# Altium footprint library Package_TO_SOT_THT.PcbLib: 236 footprints (part 10 of 15)
Each footprint in its own frame and in the unit in brackets; x right, y up, seen from the top. Pads: shape width x height; smd on the part's side, far side on the other; paste and mask are expansions set on the pad; w line width, h text height; cw(c..) or ccw(c..) is an arc to the next point about the centre after c.
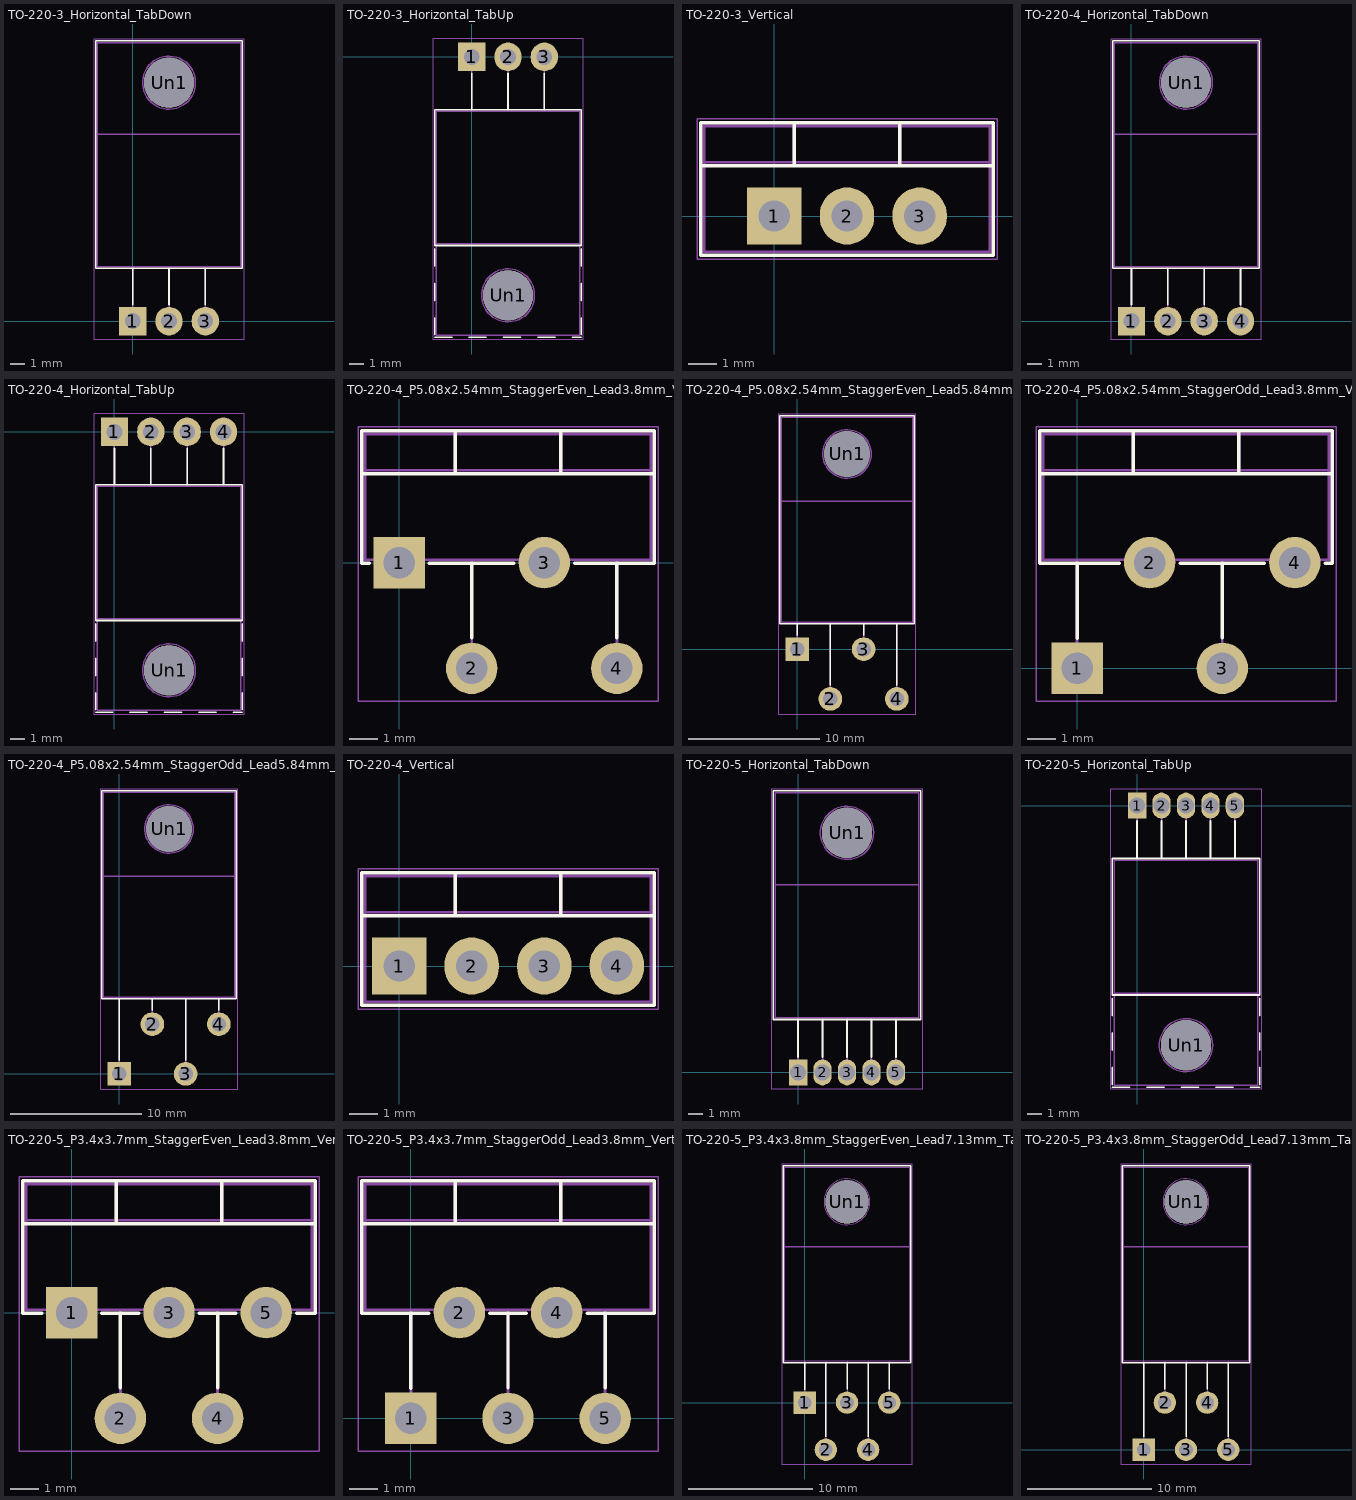
[diagram p9: the footprints below, top view; thin cyan lines are the x and y axes]

## TO-220-3_Horizontal_TabDown [mm]
pads (4):
  rect 1.905x2 hole 1.1: 1(0,0)
  rrect100% 1.905x2 hole 1.1: 2(2.54,0) 3(5.08,0)
  rrect100% 3.5x3.5 hole 3.5: Un1(2.54,16.66)
F.SilkS:
  lines w0.12: 0,1.15 0,3.69 ; 2.54,1.15 2.54,3.69 ; 5.08,1.15 5.08,3.69 ; -2.58,3.69 -2.58,19.58 7.66,19.58 7.66,3.69 -2.58,3.69
F.CrtYd:
  lines w0.05: -2.71,-1.25 -2.71,19.71 7.79,19.71 7.79,-1.25 -2.71,-1.25
F.Fab:
  circle w0.1: c2.54,16.66 r1.85
  lines w0.1: 0,0 0,3.81 ; 2.54,0 2.54,3.81 ; 5.08,0 5.08,3.81 ; -2.46,13.06 -2.46,19.46 7.54,19.46 7.54,13.06 ; -2.46,13.06 7.54,13.06 ; -2.46,13.06 7.54,13.06 ; -2.46,13.06 -2.46,3.81 7.54,3.81 7.54,13.06
  text "'.Designator'" at -1.507,19.74 h1

## TO-220-3_Horizontal_TabUp [mm]
pads (4):
  rect 1.905x2 hole 1.1: 1(0,0)
  rrect100% 1.905x2 hole 1.1: 2(2.54,0) 3(5.08,0)
  rrect100% 3.5x3.5 hole 3.5: Un1(2.54,-16.66)
F.SilkS:
  lines w0.12: -2.58,-19.58 -1.38,-19.58 ; -2.58,-19.42 -2.58,-18.22 ; -2.58,-17.02 -2.58,-15.82 ; -2.58,-14.62 -2.58,-13.42 ; -0.181,-19.58 1.02,-19.58 ; 0,-3.69 0,-1.15 ; 2.22,-19.58 3.42,-19.58 ; 2.54,-3.69 2.54,-1.15 ; 4.62,-19.58 5.82,-19.58 ; 5.08,-3.69 5.08,-1.15 ; 7.02,-19.58 7.66,-19.58 ; 7.66,-19.42 7.66,-18.22 ; 7.66,-17.02 7.66,-15.82 ; 7.66,-14.62 7.66,-13.42 ; -2.58,-13.18 -2.58,-3.69 7.66,-3.69 7.66,-13.18 -2.58,-13.18
F.CrtYd:
  lines w0.05: -2.71,-19.71 7.79,-19.71 7.79,1.25 -2.71,1.25 -2.71,-19.71
F.Fab:
  circle w0.1: c2.54,-16.66 r1.85
  lines w0.1: 0,-3.81 0,0 ; 2.54,-3.81 2.54,0 ; 5.08,-3.81 5.08,0 ; -2.46,-13.06 -2.46,-3.81 7.54,-3.81 7.54,-13.06 ; -2.46,-13.06 -2.46,-19.46 7.54,-19.46 7.54,-13.06 ; -2.46,-13.06 7.54,-13.06 ; -2.46,-13.06 7.54,-13.06
  text "'.Designator'" at -1.507,-21.42 h1

## TO-220-3_Vertical [mm]
pads (3):
  rect 1.905x2 hole 1.1: 1(0,0)
  rrect100% 1.905x2 hole 1.1: 2(2.54,0) 3(5.08,0)
F.SilkS:
  lines w0.12: -2.58,1.76 7.66,1.76 ; 0.69,1.76 0.69,3.27 ; 4.391,1.76 4.391,3.27 ; -2.58,-1.371 -2.58,3.27 7.66,3.27 7.66,-1.371 -2.58,-1.371
F.CrtYd:
  lines w0.05: -2.71,-1.51 -2.71,3.4 7.79,3.4 7.79,-1.51 -2.71,-1.51
F.Fab:
  lines w0.1: -2.46,1.88 7.54,1.88 ; 0.69,1.88 0.69,3.15 ; 4.39,1.88 4.39,3.15 ; -2.46,-1.25 7.54,-1.25 7.54,3.15 -2.46,3.15 -2.46,-1.25
  text "'.Designator'" at -1.507,3.43 h1

## TO-220-4_Horizontal_TabDown [mm]
pads (5):
  rect 1.905x2 hole 1.1: 1(0,0)
  rrect100% 1.905x2 hole 1.1: 2(2.54,0) 3(5.08,0) 4(7.62,0)
  rrect100% 3.5x3.5 hole 3.5: Un1(3.81,16.66)
F.SilkS:
  lines w0.12: 0,1.15 0,3.69 ; 2.54,1.15 2.54,3.69 ; 5.08,1.15 5.08,3.69 ; 7.62,1.15 7.62,3.69 ; -1.31,3.69 8.93,3.69 8.93,19.58 -1.31,19.58 -1.31,3.69
F.CrtYd:
  lines w0.05: -1.44,-1.25 9.06,-1.25 9.06,19.71 -1.44,19.71 -1.44,-1.25
F.Fab:
  circle w0.1: c3.81,16.66 r1.85
  lines w0.1: 0,0 0,3.81 ; 2.54,0 2.54,3.81 ; 5.08,0 5.08,3.81 ; 7.62,0 7.62,3.81 ; -1.19,13.06 8.81,13.06 ; -1.19,13.06 8.81,13.06 ; -1.19,13.06 -1.19,19.46 8.81,19.46 8.81,13.06 ; -1.19,13.06 -1.19,3.81 8.81,3.81 8.81,13.06
  text "'.Designator'" at -0.237,19.74 h1

## TO-220-4_Horizontal_TabUp [mm]
pads (5):
  rect 1.905x2 hole 1.1: 1(0,0)
  rrect100% 1.905x2 hole 1.1: 2(2.54,0) 3(5.08,0) 4(7.62,0)
  rrect100% 3.5x3.5 hole 3.5: Un1(3.81,-16.66)
F.SilkS:
  lines w0.12: -1.31,-19.58 -0.111,-19.58 ; -1.31,-19.42 -1.31,-18.22 ; -1.31,-17.02 -1.31,-15.82 ; -1.31,-14.62 -1.31,-13.42 ; 0,-3.69 0,-1.15 ; 1.09,-19.58 2.29,-19.58 ; 2.54,-3.69 2.54,-1.15 ; 3.49,-19.58 4.69,-19.58 ; 5.08,-3.69 5.08,-1.15 ; 5.89,-19.58 7.091,-19.58 ; 7.62,-3.69 7.62,-1.15 ; 8.29,-19.58 8.93,-19.58 ; 8.93,-19.42 8.93,-18.22 ; 8.93,-17.02 8.93,-15.82 ; 8.93,-14.62 8.93,-13.42 ; -1.31,-13.18 -1.31,-3.69 8.93,-3.69 8.93,-13.18 -1.31,-13.18
F.CrtYd:
  lines w0.05: -1.44,-19.71 -1.44,1.25 9.06,1.25 9.06,-19.71 -1.44,-19.71
F.Fab:
  circle w0.1: c3.81,-16.66 r1.85
  lines w0.1: 0,-3.81 0,0 ; 2.54,-3.81 2.54,0 ; 5.08,-3.81 5.08,0 ; 7.62,-3.81 7.62,0 ; -1.19,-13.06 -1.19,-3.81 8.81,-3.81 8.81,-13.06 ; -1.19,-13.06 8.81,-13.06 ; -1.19,-13.06 8.81,-13.06 ; -1.19,-13.06 -1.19,-19.46 8.81,-19.46 8.81,-13.06
  text "'.Designator'" at -0.237,-21.42 h1

## TO-220-4_P5.08x2.54mm_StaggerEven_Lead3.8mm_Vertical [mm]
pads (4):
  rect 1.8x1.8 hole 1.1: 1(0,0)
  rrect100% 1.8x1.8 hole 1.1: 2(2.54,-3.7) 3(5.08,0) 4(7.62,-3.7)
F.SilkS:
  lines w0.12: -1.31,3.111 8.93,3.111 ; -1.05,-0.021 -1.31,-0.021 -1.31,4.62 8.93,4.62 8.93,-0.021 6.145,-0.021 ; 1.05,-0.021 4.016,-0.021 ; 1.96,3.111 1.96,4.62 ; 2.54,-2.635 2.54,-0.021 ; 5.66,3.111 5.66,4.62 ; 7.62,-2.635 7.62,-0.021
F.CrtYd:
  lines w0.05: -1.44,-4.85 9.06,-4.85 9.06,4.75 -1.44,4.75 -1.44,-4.85
F.Fab:
  lines w0.1: -1.19,3.23 8.81,3.23 ; 0,0 0,0.1 ; 1.96,3.23 1.96,4.5 ; 2.54,-3.7 2.54,0.1 ; 5.08,0 5.08,0.1 ; 5.66,3.23 5.66,4.5 ; 7.62,-3.7 7.62,0.1 ; -1.19,0.1 -1.19,4.5 8.81,4.5 8.81,0.1 -1.19,0.1
  text "'.Designator'" at -0.237,4.78 h1

## TO-220-4_P5.08x2.54mm_StaggerEven_Lead5.84mm_TabDown [mm]
pads (5):
  rect 1.8x1.8 hole 1.1: 1(0,0)
  rrect100% 1.8x1.8 hole 1.1: 2(2.54,-3.8) 3(5.08,0) 4(7.62,-3.8)
  rrect100% 3.5x3.5 hole 3.5: Un1(3.81,14.9)
F.SilkS:
  lines w0.12: 0,1.05 0,1.93 ; 2.54,-2.735 2.54,1.93 ; 5.08,1.066 5.08,1.93 ; 7.62,-2.735 7.62,1.93 ; -1.31,1.93 8.93,1.93 8.93,17.82 -1.31,17.82 -1.31,1.93
F.CrtYd:
  lines w0.05: -1.44,-4.95 -1.44,17.95 9.06,17.95 9.06,-4.95 -1.44,-4.95
F.Fab:
  circle w0.1: c3.81,14.9 r1.85
  lines w0.1: 0,0 0,2.05 ; 2.54,-3.8 2.54,2.05 ; 5.08,0 5.08,2.05 ; 7.62,-3.8 7.62,2.05 ; -1.19,11.3 -1.19,17.7 8.81,17.7 8.81,11.3 ; -1.19,11.3 8.81,11.3 ; -1.19,11.3 -1.19,2.05 8.81,2.05 8.81,11.3 ; -1.19,11.3 8.81,11.3
  text "'.Designator'" at -0.237,17.98 h1

## TO-220-4_P5.08x2.54mm_StaggerOdd_Lead3.8mm_Vertical [mm]
pads (4):
  rect 1.8x1.8 hole 1.1: 1(0,0)
  rrect100% 1.8x1.8 hole 1.1: 2(2.54,3.7) 3(5.08,0) 4(7.62,3.7)
F.SilkS:
  lines w0.12: -1.31,6.811 8.93,6.811 ; 0,1.049 0,3.679 ; 1.475,3.679 -1.31,3.679 -1.31,8.32 8.93,8.32 8.93,3.679 8.685,3.679 ; 1.96,6.811 1.96,8.32 ; 3.605,3.679 6.556,3.679 ; 5.08,1.065 5.08,3.679 ; 5.66,6.811 5.66,8.32
F.CrtYd:
  lines w0.05: -1.44,-1.15 -1.44,8.45 9.06,8.45 9.06,-1.15 -1.44,-1.15
F.Fab:
  lines w0.1: -1.19,6.93 8.81,6.93 ; 0,0 0,3.8 ; 1.96,6.93 1.96,8.2 ; 2.54,3.7 2.54,3.8 ; 5.08,0 5.08,3.8 ; 5.66,6.93 5.66,8.2 ; 7.62,3.7 7.62,3.8 ; -1.19,3.8 8.81,3.8 8.81,8.2 -1.19,8.2 -1.19,3.8
  text "'.Designator'" at -0.237,8.48 h1

## TO-220-4_P5.08x2.54mm_StaggerOdd_Lead5.84mm_TabDown [mm]
pads (5):
  rect 1.8x1.8 hole 1.1: 1(0,0)
  rrect100% 1.8x1.8 hole 1.1: 2(2.54,3.8) 3(5.08,0) 4(7.62,3.8)
  rrect100% 3.5x3.5 hole 3.5: Un1(3.81,18.7)
F.SilkS:
  lines w0.12: 0,1.05 0,5.73 ; 2.54,4.866 2.54,5.73 ; 5.08,1.065 5.08,5.73 ; 7.62,4.866 7.62,5.73 ; -1.31,5.73 8.93,5.73 8.93,21.62 -1.31,21.62 -1.31,5.73
F.CrtYd:
  lines w0.05: -1.44,-1.15 9.06,-1.15 9.06,21.75 -1.44,21.75 -1.44,-1.15
F.Fab:
  circle w0.1: c3.81,18.7 r1.85
  lines w0.1: 0,0 0,5.85 ; 2.54,3.8 2.54,5.85 ; 5.08,0 5.08,5.85 ; 7.62,3.8 7.62,5.85 ; -1.19,15.1 8.81,15.1 ; -1.19,15.1 -1.19,21.5 8.81,21.5 8.81,15.1 ; -1.19,15.1 8.81,15.1 ; -1.19,15.1 -1.19,5.85 8.81,5.85 8.81,15.1
  text "'.Designator'" at -0.237,21.78 h1

## TO-220-4_Vertical [mm]
pads (4):
  rect 1.905x2 hole 1.1: 1(0,0)
  rrect100% 1.905x2 hole 1.1: 2(2.54,0) 3(5.08,0) 4(7.62,0)
F.SilkS:
  lines w0.12: -1.31,1.76 8.93,1.76 ; 1.96,1.76 1.96,3.27 ; 5.66,1.76 5.66,3.27 ; -1.31,-1.371 8.93,-1.371 8.93,3.27 -1.31,3.27 -1.31,-1.371
F.CrtYd:
  lines w0.05: -1.44,-1.51 9.06,-1.51 9.06,3.4 -1.44,3.4 -1.44,-1.51
F.Fab:
  lines w0.1: -1.19,1.88 8.81,1.88 ; 1.96,1.88 1.96,3.15 ; 5.66,1.88 5.66,3.15 ; -1.19,-1.25 8.81,-1.25 8.81,3.15 -1.19,3.15 -1.19,-1.25
  text "'.Designator'" at -0.237,3.43 h1

## TO-220-5_Horizontal_TabDown [mm]
pads (6):
  rect 1.275x1.8 hole 1.1: 1(0,0)
  rrect100% 1.275x1.8 hole 1.1: 2(1.7,0) 3(3.4,0) 4(5.1,0) 5(6.8,0)
  rrect100% 3.5x3.5 hole 3.5: Un1(3.4,16.66)
F.SilkS:
  lines w0.12: 0,1.05 0,3.69 ; 1.7,1.05 1.7,3.69 ; 3.4,1.05 3.4,3.69 ; 5.1,1.05 5.1,3.69 ; 6.8,1.05 6.8,3.69 ; -1.721,3.69 8.52,3.69 8.52,19.58 -1.721,19.58 -1.721,3.69
F.CrtYd:
  lines w0.05: -1.85,-1.15 -1.85,19.71 8.65,19.71 8.65,-1.15 -1.85,-1.15
F.Fab:
  circle w0.1: c3.4,16.66 r1.85
  lines w0.1: 0,0 0,3.81 ; 1.7,0 1.7,3.81 ; 3.4,0 3.4,3.81 ; 5.1,0 5.1,3.81 ; 6.8,0 6.8,3.81 ; -1.6,13.06 8.4,13.06 ; -1.6,13.06 -1.6,3.81 8.4,3.81 8.4,13.06 ; -1.6,13.06 -1.6,19.46 8.4,19.46 8.4,13.06 ; -1.6,13.06 8.4,13.06
  text "'.Designator'" at -0.647,19.74 h1

## TO-220-5_Horizontal_TabUp [mm]
pads (6):
  rect 1.275x1.8 hole 1.1: 1(0,0)
  rrect100% 1.275x1.8 hole 1.1: 2(1.7,0) 3(3.4,0) 4(5.1,0) 5(6.8,0)
  rrect100% 3.5x3.5 hole 3.5: Un1(3.4,-16.66)
F.SilkS:
  lines w0.12: -1.721,-19.58 -0.521,-19.58 ; -1.721,-19.42 -1.721,-18.22 ; -1.721,-17.02 -1.721,-15.82 ; -1.721,-14.62 -1.721,-13.42 ; 0,-3.69 0,-1.05 ; 0.68,-19.58 1.88,-19.58 ; 1.7,-3.69 1.7,-1.05 ; 3.08,-19.58 4.28,-19.58 ; 3.4,-3.69 3.4,-1.05 ; 5.1,-3.69 5.1,-1.05 ; 5.48,-19.58 6.68,-19.58 ; 6.8,-3.69 6.8,-1.05 ; 7.88,-19.58 8.52,-19.58 ; 8.52,-19.42 8.52,-18.22 ; 8.52,-17.02 8.52,-15.82 ; 8.52,-14.62 8.52,-13.42 ; -1.721,-13.18 -1.721,-3.69 8.52,-3.69 8.52,-13.18 -1.721,-13.18
F.CrtYd:
  lines w0.05: -1.85,-19.71 -1.85,1.15 8.65,1.15 8.65,-19.71 -1.85,-19.71
F.Fab:
  circle w0.1: c3.4,-16.66 r1.85
  lines w0.1: 0,-3.81 0,0 ; 1.7,-3.81 1.7,0 ; 3.4,-3.81 3.4,0 ; 5.1,-3.81 5.1,0 ; 6.8,-3.81 6.8,0 ; -1.6,-13.06 8.4,-13.06 ; -1.6,-13.06 -1.6,-3.81 8.4,-3.81 8.4,-13.06 ; -1.6,-13.06 8.4,-13.06 ; -1.6,-13.06 -1.6,-19.46 8.4,-19.46 8.4,-13.06
  text "'.Designator'" at -0.647,-21.42 h1

## TO-220-5_P3.4x3.7mm_StaggerEven_Lead3.8mm_Vertical [mm]
pads (5):
  rect 1.8x1.8 hole 1.1: 1(0,0)
  rrect100% 1.8x1.8 hole 1.1: 2(1.7,-3.7) 3(3.4,0) 4(5.1,-3.7) 5(6.8,0)
F.SilkS:
  lines w0.12: -1.721,3.111 8.52,3.111 ; -1.05,-0.021 -1.721,-0.021 -1.721,4.62 8.52,4.62 8.52,-0.021 7.865,-0.021 ; 1.05,-0.021 2.335,-0.021 ; 1.55,3.111 1.55,4.62 ; 1.7,-2.635 1.7,-0.021 ; 4.465,-0.021 5.735,-0.021 ; 5.1,-2.635 5.1,-0.021 ; 5.25,3.111 5.25,4.62
F.CrtYd:
  lines w0.05: -1.85,-4.85 -1.85,4.75 8.65,4.75 8.65,-4.85 -1.85,-4.85
F.Fab:
  lines w0.1: -1.6,3.23 8.4,3.23 ; 0,0 0,0.1 ; 1.55,3.23 1.55,4.5 ; 1.7,-3.7 1.7,0.1 ; 3.4,0 3.4,0.1 ; 5.1,-3.7 5.1,0.1 ; 5.25,3.23 5.25,4.5 ; 6.8,0 6.8,0.1 ; -1.6,0.1 -1.6,4.5 8.4,4.5 8.4,0.1 -1.6,0.1
  text "'.Designator'" at -0.647,4.78 h1

## TO-220-5_P3.4x3.7mm_StaggerOdd_Lead3.8mm_Vertical [mm]
pads (5):
  rect 1.8x1.8 hole 1.1: 1(0,0)
  rrect100% 1.8x1.8 hole 1.1: 2(1.7,3.7) 3(3.4,0) 4(5.1,3.7) 5(6.8,0)
F.SilkS:
  lines w0.12: -1.721,6.811 8.52,6.811 ; 0,1.049 0,3.679 ; 0.635,3.679 -1.721,3.679 -1.721,8.32 8.52,8.32 8.52,3.679 6.165,3.679 ; 1.55,6.811 1.55,8.32 ; 2.765,3.679 4.035,3.679 ; 3.4,1.065 3.4,3.679 ; 5.25,6.811 5.25,8.32 ; 6.8,1.065 6.8,3.679
F.CrtYd:
  lines w0.05: -1.85,-1.15 8.65,-1.15 8.65,8.45 -1.85,8.45 -1.85,-1.15
F.Fab:
  lines w0.1: -1.6,6.93 8.4,6.93 ; 0,0 0,3.8 ; 1.55,6.93 1.55,8.2 ; 1.7,3.7 1.7,3.8 ; 3.4,0 3.4,3.8 ; 5.1,3.7 5.1,3.8 ; 5.25,6.93 5.25,8.2 ; 6.8,0 6.8,3.8 ; -1.6,3.8 8.4,3.8 8.4,8.2 -1.6,8.2 -1.6,3.8
  text "'.Designator'" at -0.647,8.48 h1

## TO-220-5_P3.4x3.8mm_StaggerEven_Lead7.13mm_TabDown [mm]
pads (6):
  rect 1.8x1.8 hole 1.1: 1(0,0)
  rrect100% 1.8x1.8 hole 1.1: 2(1.7,-3.8) 3(3.4,0) 4(5.1,-3.8) 5(6.8,0)
  rrect100% 3.5x3.5 hole 3.5: Un1(3.4,16.18)
F.SilkS:
  lines w0.12: 0,1.05 0,3.21 ; 1.7,-2.735 1.7,3.21 ; 3.4,1.066 3.4,3.21 ; 5.1,-2.735 5.1,3.21 ; 6.8,1.066 6.8,3.21 ; -1.721,3.21 8.52,3.21 8.52,19.1 -1.721,19.1 -1.721,3.21
F.CrtYd:
  lines w0.05: -1.85,-4.95 8.65,-4.95 8.65,19.23 -1.85,19.23 -1.85,-4.95
F.Fab:
  circle w0.1: c3.4,16.18 r1.85
  lines w0.1: 0,0 0,3.33 ; 1.7,-3.8 1.7,3.33 ; 3.4,0 3.4,3.33 ; 5.1,-3.8 5.1,3.33 ; 6.8,0 6.8,3.33 ; -1.6,12.58 8.4,12.58 ; -1.6,12.58 8.4,12.58 ; -1.6,12.58 -1.6,18.98 8.4,18.98 8.4,12.58 ; -1.6,12.58 -1.6,3.33 8.4,3.33 8.4,12.58
  text "'.Designator'" at -0.647,19.26 h1

## TO-220-5_P3.4x3.8mm_StaggerOdd_Lead7.13mm_TabDown [mm]
pads (6):
  rect 1.8x1.8 hole 1.1: 1(0,0)
  rrect100% 1.8x1.8 hole 1.1: 2(1.7,3.8) 3(3.4,0) 4(5.1,3.8) 5(6.8,0)
  rrect100% 3.5x3.5 hole 3.5: Un1(3.4,19.98)
F.SilkS:
  lines w0.12: 0,1.05 0,7.01 ; 1.7,4.866 1.7,7.01 ; 3.4,1.065 3.4,7.01 ; 5.1,4.866 5.1,7.01 ; 6.8,1.065 6.8,7.01 ; -1.721,7.01 8.52,7.01 8.52,22.9 -1.721,22.9 -1.721,7.01
F.CrtYd:
  lines w0.05: -1.85,-1.15 8.65,-1.15 8.65,23.03 -1.85,23.03 -1.85,-1.15
F.Fab:
  circle w0.1: c3.4,19.98 r1.85
  lines w0.1: 0,0 0,7.13 ; 1.7,3.8 1.7,7.13 ; 3.4,0 3.4,7.13 ; 5.1,3.8 5.1,7.13 ; 6.8,0 6.8,7.13 ; -1.6,16.38 -1.6,22.78 8.4,22.78 8.4,16.38 ; -1.6,16.38 -1.6,7.13 8.4,7.13 8.4,16.38 ; -1.6,16.38 8.4,16.38 ; -1.6,16.38 8.4,16.38
  text "'.Designator'" at -0.647,23.06 h1